# EAGLE library part LCD (library rc)
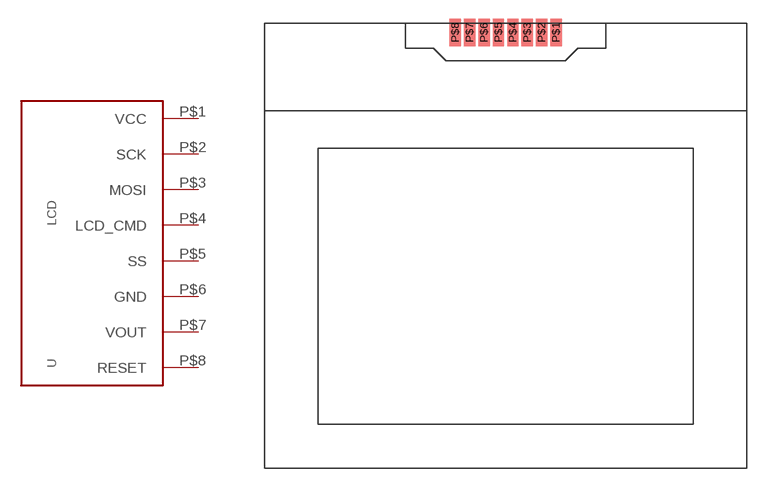
[diagram p1: symbol with the pads of BWLCD; footprint BWLCD]

Designator prefix -

## LCD  [BWLCD]
P$1  VCC
P$2  SCK
P$3  MOSI
P$4  LCD_CMD
P$5  SS
P$6  GND
P$7  VOUT
P$8  RESET

## Footprint BWLCD (pad centres in mm)
smd 0.9 x 2.2: P$1 4.025,0; P$2 2.875,0; P$3 1.725,0; P$4 0.575,0; P$5 -0.575,0; P$6 -1.725,0; P$7 -2.875,0; P$8 -4.025,0